# EAGLE library part 6250XX22121_62503422121 (library con-wurth)
WR-BHD 2.00 mm Male Angled Box Header w. Lever KIND PROPERTIES: Pitch 2 mm Gender:Male MATERIAL PROPERTIES: Insulator Material:PBT Insulator Flammability Rating UL94 V-0 Insulator Color:Black Contact Material :Copper Alloy Contact Plating :Gold Contact Type: Stamped GENERAL INFORMATION: Operating Temperature:-40 °C up to +125 °C Compliance:RoHS Working Voltage: 250 V (AC) Withstanding Voltage:500 V (AC) Contact Resistance: 20 mΩ Insulation Resistance:1000 MΩ CERTIFICATION UL Approval:E323964 PACKAGING PROPERTIES Packaging :Tray <https://www.we-online.de/katalog/media/o32938v209%20Family_WR-BHD_6250xx22121.jpg> Details see: https://www.we-online.de/katalog/en/em/BHD_2_00_MALE_ANGLED_BOX_HEADER_WITH_LEVER_6250XX22121 Updated by Yingchun,Shan 2019-11-04 2019 (C) Würth Elektronik
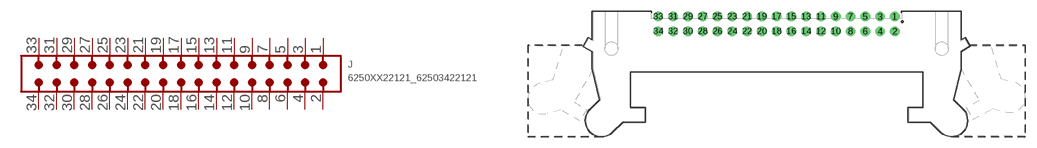
[diagram p150: symbol with the pads of 62503422121; footprint 62503422121]

Designator prefix J

## 6250XX22121_62503422121 (CONTACT-RESISTANCE: 20mOhm; DATASHEET-URL: https://www.we-online.com/redexpert/spec/62503422121?ae; GENDER: Male; IR: 2A; LENGTH: 49.7mm; MOUNT: THT; PACKAGING: Tray; PART-NUMBER: 62503422121; PINS: 34; PITCH: 2mm; TYPE: Angled; VALUE: 62503422121; WORKING-VOLTAGE: 250V(AC))  [62503422121]
1  1  pas
2  2  pas
3  3  pas
4  4  pas
5  5  pas
6  6  pas
7  7  pas
8  8  pas
9  9  pas
10  10  pas
11  11  pas
12  12  pas
13  13  pas
14  14  pas
15  15  pas
16  16  pas
17  17  pas
18  18  pas
19  19  pas
20  20  pas
21  21  pas
22  22  pas
23  23  pas
24  24  pas
25  25  pas
26  26  pas
27  27  pas
28  28  pas
29  29  pas
30  30  pas
31  31  pas
32  32  pas
33  33  pas
34  34  pas

## Footprint 62503422121 (pad centres in mm)
WR-BHD 2.00 mm Male Angled Box Header w. Lever,34 Pins
drill 0.8: 1 16,3.4; 2 16,1.4; 3 14,3.4; 4 14,1.4; 5 12,3.4; 6 12,1.4; 7 10,3.4; 8 10,1.4; 9 8,3.4; 10 8,1.4; 11 6,3.4; 12 6,1.4; 13 4,3.4; 14 4,1.4; 15 2,3.4; 16 2,1.4; 17 0,3.4; 18 0,1.4; 19 -2,3.4; 20 -2,1.4; 21 -4,3.4; 22 -4,1.4; 23 -6,3.4; 24 -6,1.4; 25 -8,3.4; 26 -8,1.4; 27 -10,3.4; 28 -10,1.4; 29 -12,3.4; 30 -12,1.4; 31 -14,3.4; 32 -14,1.4; 33 -16,3.4; 34 -16,1.4